# Altium footprint library PA-03225-V0.4-4.PcbLib: 16 footprints
Each footprint in its own frame and in the unit in brackets; x right, y up, seen from the top. Pads: shape width x height; smd on the part's side, far side on the other; paste and mask are expansions set on the pad; w line width, h text height; cw(c..) or ccw(c..) is an arc to the next point about the centre after c.
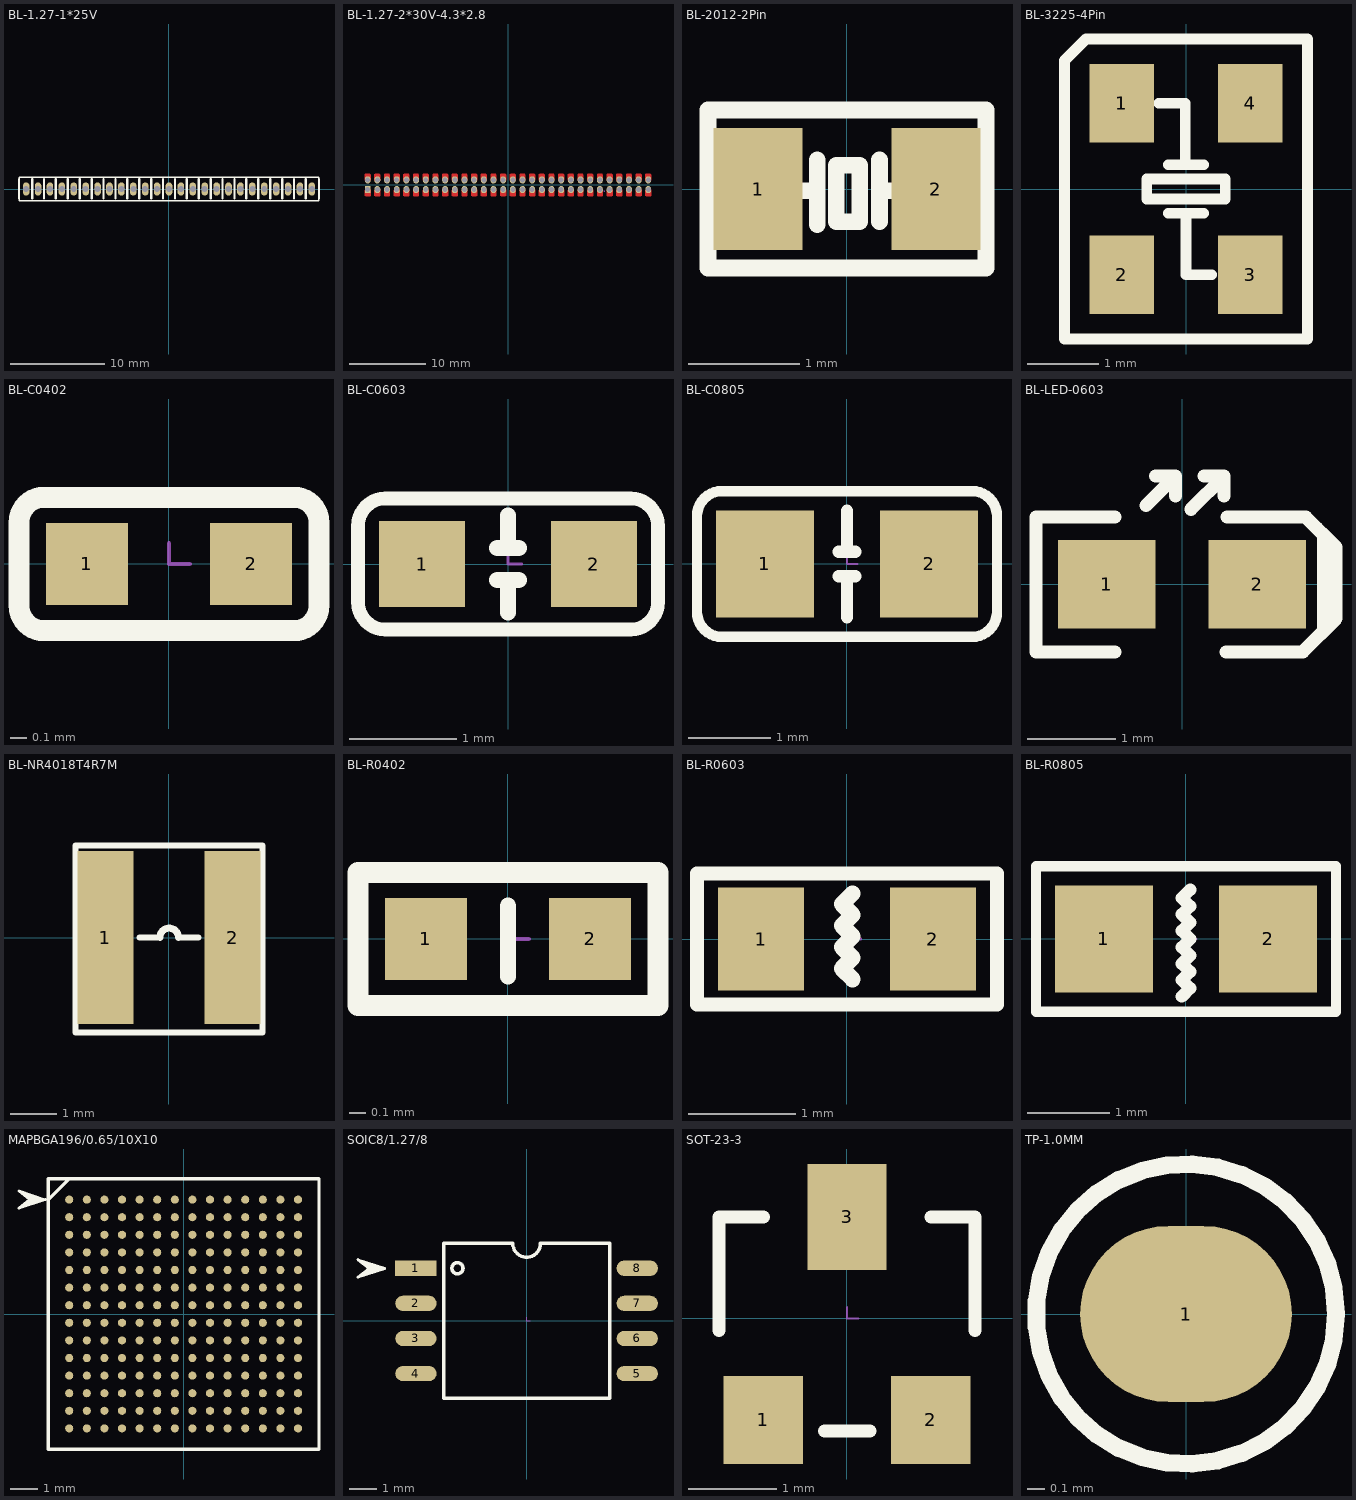
[diagram p0: the footprints below, top view; thin cyan lines are the x and y axes]

## BL-1.27-1*25V [mm] "针?"
height 12
pads (25):
  oval 0.7x1.4 / inner oval 0.7x1.4 / far side oval 0.82x1.4 hole 0.635: 1(-15.24,0) 2(-13.97,0) 3(-12.7,0) 4(-11.43,0) 5(-10.16,0) 6(-8.89,0) 7(-7.62,0) 8(-6.35,0) 9(-5.08,0) 10(-3.81,0) 11(-2.54,0) 12(-1.27,0) 13(0,0) 14(1.27,0) 15(2.54,0) 16(3.81,0) 17(5.08,0) 18(6.35,0) 19(7.62,0) 20(8.89,0) 21(10.16,0) 22(11.43,0) 23(12.7,0) 24(13.97,0) 25(15.24,0)
Top Overlay:
  lines w0.15: -16.002,-1.27 -16.002,1.27 16.002,1.27 16.002,-1.27 -16.002,-1.27
  lines w0.25: -16.002,-1.015 -16.002,1.035 ; -14.605,-1.015 -14.605,1.035 ; -13.335,-1.015 -13.335,1.035 ; -12.065,-1.015 -12.065,1.035 ; -10.795,-1.015 -10.795,1.035 ; -9.525,-1.015 -9.525,1.035 ; -8.255,-1.015 -8.255,1.035 ; -6.985,-1.015 -6.985,1.035 ; -5.715,-1.015 -5.715,1.035 ; -4.445,-1.015 -4.445,1.035 ; -3.175,-1.015 -3.175,1.035 ; -1.905,-1.015 -1.905,1.035 ; -0.635,-1.015 -0.635,1.035 ; 0.635,-1.015 0.635,1.035 ; 1.905,-1.015 1.905,1.035 ; 3.175,-1.015 3.175,1.035 ; 4.445,-1.015 4.445,1.035 ; 5.715,-1.015 5.715,1.035 ; 6.985,-1.015 6.985,1.035 ; 8.255,-1.015 8.255,1.035 ; 9.525,-1.015 9.525,1.035 ; 10.795,-1.015 10.795,1.035 ; 12.065,-1.015 12.065,1.035 ; 13.335,-1.015 13.335,1.035 ; 14.605,-1.015 14.605,1.035 ; 16.002,-1.015 16.002,1.035

## BL-1.27-2*30V-4.3*2.8 [mil]
pads (60):
  rect 30x37 hole 25.59: 1(-725,-25)
  oval 30x37 hole 25.59: 2(-725,25) 3(-675,-25) 4(-675,25) 5(-625,-25) 6(-625,25) 7(-575,-25) 8(-575,25) 9(-525,-25) 10(-525,25) 11(-475,-25) 12(-475,25) 13(-425,-25) 14(-425,25) 15(-375,-25) 16(-375,25) 17(-325,-25) 18(-325,25) 19(-275,-25) 20(-275,25) 21(-225,-25) 22(-225,25) 23(-175,-25) 24(-175,25) 25(-125,-25) 26(-125,25) 27(-75,-25) 28(-75,25) 29(-25,-25) 30(-25,25) 31(25,-25) 32(25,25) 33(75,-25) 34(75,25) 35(125,-25) 36(125,25) 37(175,-25) 38(175,25) 39(225,-25) 40(225,25) 41(275,-25) 42(275,25) 43(325,-25) 44(325,25) 45(375,-25) 46(375,25) 47(425,-25) 48(425,25) 49(475,-25) 50(475,25) 51(525,-25) 52(525,25) 53(575,-25) 54(575,25) 55(625,-25) 56(625,25) 57(675,-25) 58(675,25) 59(725,-25) 60(725,25)
Top Layer:
  region: -710,-57.13 -713,-60.13 -736,-60.13 -740,-56.13 -740,-27.87 -734.27,-22.13 -714.5,-22.13 -710,-26.63
  region: -740,53 -737,56 -714,56 -710,52 -710,23.73 -715.73,18 -735.5,18 -740,22.5
  region: -690,53 -687,56 -664,56 -660,52 -660,23.73 -665.73,18 -685.5,18 -690,22.5
  region: -660,-57.13 -663,-60.13 -686,-60.13 -690,-56.13 -690,-27.87 -684.27,-22.13 -664.5,-22.13 -660,-26.63
  region: -640,53 -637,56 -614,56 -610,52 -610,23.73 -615.73,18 -635.5,18 -640,22.5
  region: -610,-57.13 -613,-60.13 -636,-60.13 -640,-56.13 -640,-27.87 -634.27,-22.13 -614.5,-22.13 -610,-26.63
  region: -590,53 -587,56 -564,56 -560,52 -560,23.73 -565.73,18 -585.5,18 -590,22.5
  region: -560,-57.13 -563,-60.13 -586,-60.13 -590,-56.13 -590,-27.87 -584.27,-22.13 -564.5,-22.13 -560,-26.63
  region: -540,53 -537,56 -514,56 -510,52 -510,23.73 -515.73,18 -535.5,18 -540,22.5
  region: -510,-57.13 -513,-60.13 -536,-60.13 -540,-56.13 -540,-27.87 -534.27,-22.13 -514.5,-22.13 -510,-26.63
  region: -490,53 -487,56 -464,56 -460,52 -460,23.73 -465.73,18 -485.5,18 -490,22.5
  region: -460,-57.13 -463,-60.13 -486,-60.13 -490,-56.13 -490,-27.87 -484.27,-22.13 -464.5,-22.13 -460,-26.63
  region: -440,53 -437,56 -414,56 -410,52 -410,23.73 -415.73,18 -435.5,18 -440,22.5
  region: -410,-57.13 -413,-60.13 -436,-60.13 -440,-56.13 -440,-27.87 -434.27,-22.13 -414.5,-22.13 -410,-26.63
  region: -390,53 -387,56 -364,56 -360,52 -360,23.73 -365.73,18 -385.5,18 -390,22.5
  region: -360,-57.13 -363,-60.13 -386,-60.13 -390,-56.13 -390,-27.87 -384.27,-22.13 -364.5,-22.13 -360,-26.63
  region: -340,53 -337,56 -314,56 -310,52 -310,23.73 -315.73,18 -335.5,18 -340,22.5
  region: -310,-57.13 -313,-60.13 -336,-60.13 -340,-56.13 -340,-27.87 -334.27,-22.13 -314.5,-22.13 -310,-26.63
  region: -290,53 -287,56 -264,56 -260,52 -260,23.73 -265.73,18 -285.5,18 -290,22.5
  region: -260,-57.13 -263,-60.13 -286,-60.13 -290,-56.13 -290,-27.87 -284.27,-22.13 -264.5,-22.13 -260,-26.63
  region: -240,53 -237,56 -214,56 -210,52 -210,23.73 -215.73,18 -235.5,18 -240,22.5
  region: -210,-57.13 -213,-60.13 -236,-60.13 -240,-56.13 -240,-27.87 -234.27,-22.13 -214.5,-22.13 -210,-26.63
  region: -190,53 -187,56 -164,56 -160,52 -160,23.73 -165.73,18 -185.5,18 -190,22.5
  region: -160,-57.13 -163,-60.13 -186,-60.13 -190,-56.13 -190,-27.87 -184.27,-22.13 -164.5,-22.13 -160,-26.63
  region: -140,53 -137,56 -114,56 -110,52 -110,23.73 -115.73,18 -135.5,18 -140,22.5
  region: -110,-57.13 -113,-60.13 -136,-60.13 -140,-56.13 -140,-27.87 -134.27,-22.13 -114.5,-22.13 -110,-26.63
  region: -90,53 -87,56 -64,56 -60,52 -60,23.73 -65.73,18 -85.5,18 -90,22.5
  region: -60,-57.13 -63,-60.13 -86,-60.13 -90,-56.13 -90,-27.87 -84.27,-22.13 -64.5,-22.13 -60,-26.63
  region: -40,53 -37,56 -14,56 -10,52 -10,23.73 -15.73,18 -35.5,18 -40,22.5
  region: -10,-57.13 -13,-60.13 -36,-60.13 -40,-56.13 -40,-27.87 -34.27,-22.13 -14.5,-22.13 -10,-26.63
  region: 10,53 13,56 36,56 40,52 40,23.73 34.27,18 14.5,18 10,22.5
  region: 40,-57.13 37,-60.13 14,-60.13 10,-56.13 10,-27.87 15.73,-22.13 35.5,-22.13 40,-26.63
  region: 60,53 63,56 86,56 90,52 90,23.73 84.27,18 64.5,18 60,22.5
  region: 90,-57.13 87,-60.13 64,-60.13 60,-56.13 60,-27.87 65.73,-22.13 85.5,-22.13 90,-26.63
  region: 110,53 113,56 136,56 140,52 140,23.73 134.27,18 114.5,18 110,22.5
  region: 140,-57.13 137,-60.13 114,-60.13 110,-56.13 110,-27.87 115.73,-22.13 135.5,-22.13 140,-26.63
  region: 160,53 163,56 186,56 190,52 190,23.73 184.27,18 164.5,18 160,22.5
  region: 190,-57.13 187,-60.13 164,-60.13 160,-56.13 160,-27.87 165.73,-22.13 185.5,-22.13 190,-26.63
  region: 210,53 213,56 236,56 240,52 240,23.73 234.27,18 214.5,18 210,22.5
  region: 240,-57.13 237,-60.13 214,-60.13 210,-56.13 210,-27.87 215.73,-22.13 235.5,-22.13 240,-26.63
  region: 260,53 263,56 286,56 290,52 290,23.73 284.27,18 264.5,18 260,22.5
  region: 290,-57.13 287,-60.13 264,-60.13 260,-56.13 260,-27.87 265.73,-22.13 285.5,-22.13 290,-26.63
  region: 310,53 313,56 336,56 340,52 340,23.73 334.27,18 314.5,18 310,22.5
  region: 340,-57.13 337,-60.13 314,-60.13 310,-56.13 310,-27.87 315.73,-22.13 335.5,-22.13 340,-26.63
  region: 360,53 363,56 386,56 390,52 390,23.73 384.27,18 364.5,18 360,22.5
  region: 390,-57.13 387,-60.13 364,-60.13 360,-56.13 360,-27.87 365.73,-22.13 385.5,-22.13 390,-26.63
  region: 410,53 413,56 436,56 440,52 440,23.73 434.27,18 414.5,18 410,22.5
  region: 440,-57.13 437,-60.13 414,-60.13 410,-56.13 410,-27.87 415.73,-22.13 435.5,-22.13 440,-26.63
  region: 460,53 463,56 486,56 490,52 490,23.73 484.27,18 464.5,18 460,22.5
  region: 490,-57.13 487,-60.13 464,-60.13 460,-56.13 460,-27.87 465.73,-22.13 485.5,-22.13 490,-26.63
  region: 510,53 513,56 536,56 540,52 540,23.73 534.27,18 514.5,18 510,22.5
  region: 540,-57.13 537,-60.13 514,-60.13 510,-56.13 510,-27.87 515.73,-22.13 535.5,-22.13 540,-26.63
  region: 560,53 563,56 586,56 590,52 590,23.73 584.27,18 564.5,18 560,22.5
  region: 590,-57.13 587,-60.13 564,-60.13 560,-56.13 560,-27.87 565.73,-22.13 585.5,-22.13 590,-26.63
  region: 610,53 613,56 636,56 640,52 640,23.73 634.27,18 614.5,18 610,22.5
  region: 640,-57.13 637,-60.13 614,-60.13 610,-56.13 610,-27.87 615.73,-22.13 635.5,-22.13 640,-26.63
  region: 660,53 663,56 686,56 690,52 690,23.73 684.27,18 664.5,18 660,22.5
  region: 690,-57.13 687,-60.13 664,-60.13 660,-56.13 660,-27.87 665.73,-22.13 685.5,-22.13 690,-26.63
  region: 710,53 713,56 736,56 740,52 740,23.73 734.27,18 714.5,18 710,22.5
  region: 740,-57.13 737,-60.13 714,-60.13 710,-56.13 710,-27.87 715.73,-22.13 735.5,-22.13 740,-26.63
Bottom Overlay:
  lines w4: -731.73,-109.13 -723.73,-93.13 -719.73,-109.13 ; -715.73,-111.13 -725.73,-89.13 -733.73,-111.13 -725.18,-81.13 ; -725.18,-81.13 -712.63,-119.13 -725.18,-103.64 -737.73,-119.13 -725.18,-81.13
  lines w5: -775,0 -700,0 -700,-75 ; -775,-75 775,-75 775,75 -775,75 -775,-75
  lines w7.87: -723.73,-103.13 -723.73,-93.13
  text "1" at -765,-40 h30
  text "2" at -765,15 h30
Top Solder:
  drawing of 60 lines, arcs and shapes, not listed
Mechanical 2:
  lines w1: 494.45,-31.5 499.45,-31.5 499.45,-36.5
  text "80" at -456.26,-82.68 h8
  text "79" at -456.26,31.5 h8
  text "1" at 1479.45,38.5 h8
  text "2" at 1479.45,-81.5 h8

## BL-2012-2Pin [mm]
height 12
pads (2):
  rect 0.8x1.1 smd paste+0 mask+0.051: 1(-0.8,0) 2(0.8,0)
Top Overlay:
  lines w0.15: -0.47,-0.016 -0.282,-0.016 ; -0.267,-0.321 -0.267,0.264 ; 0.292,-0.295 0.292,0.264 ; 0.343,-0.016 0.495,-0.016 ; -0.095,-0.295 -0.095,0.213 0.114,0.213 0.114,-0.295 -0.095,-0.295
  lines w0.152: -1.25,-0.711 -1.25,0.711 1.25,0.711 1.25,-0.711 -1.25,-0.711

## BL-3225-4Pin [mm]
height 12
pads (4):
  rect 0.9x1.1 smd: 1(-0.9,1.2) 2(-0.9,-1.2) 3(0.9,-1.2) 4(0.9,1.2)
Top Overlay:
  lines w0.15: -0.38,1.2 -0.01,1.2 -0.01,0.4 ; -0.25,-0.34 0,-0.34 ; -0.25,0.34 0.25,0.34 ; 0.25,-0.34 0,-0.34 ; 0.36,-1.2 0,-1.2 0,-0.34 ; -1.7,-2.1 -1.7,1.8 -1.4,2.1 1.7,2.1 1.7,-2.1 -1.7,-2.1 ; -0.55,-0.14 -0.55,0.14 0.55,0.14 0.55,-0.14 -0.55,-0.14

## BL-C0402 [mm]
height 12
pads (2):
  rect 0.5x0.5 smd: 1(-0.5,0) 2(0.5,0)
Top Overlay:
  lines w0.127: -0.914,-0.254 ccw(c-0.762,-0.254) -0.762,-0.406 0.762,-0.406 ccw(c0.762,-0.254) 0.914,-0.254 0.914,0.254 ccw(c0.762,0.254) 0.762,0.406 -0.762,0.406 ccw(c-0.762,0.254) -0.914,0.254 -0.914,-0.254
Mechanical 2:
  lines w0.025: 0,0.127 0,0 0.127,0

## BL-C0603 [mm]
pads (2):
  rect 0.8x0.8 smd: 1(-0.8,0) 2(0.8,0)
Top Overlay:
  lines w0.127: -1.397,-0.356 ccw(c-1.143,-0.356) -1.143,-0.61 1.143,-0.61 ccw(c1.143,-0.356) 1.397,-0.356 1.397,0.356 ccw(c1.143,0.356) 1.143,0.61 -1.143,0.61 ccw(c-1.143,0.356) -1.397,0.356 -1.397,-0.356
  lines w0.15: -0.1,-0.15 0.1,-0.15 ; -0.1,0.15 0.1,0.15 ; 0,-0.45 0,-0.15 ; 0,0.15 0,0.45
Mechanical 2:
  lines w0.025: 0,0.127 0,0 0.127,0

## BL-C0805 [mm]
height 12
pads (2):
  rect 1.2x1.3 smd: 1(-1,0) 2(1,0)
Top Overlay:
  lines w0.127: -1.829,-0.584 ccw(c-1.524,-0.584) -1.524,-0.889 1.524,-0.889 ccw(c1.524,-0.584) 1.829,-0.584 1.829,0.584 ccw(c1.524,0.584) 1.524,0.889 -1.524,0.889 ccw(c-1.524,0.584) -1.829,0.584 -1.829,-0.584
  lines w0.15: -0.1,-0.15 0.1,-0.15 ; -0.1,0.15 0.1,0.15 ; 0,-0.65 0,-0.15 ; 0,0.15 0,0.65
Mechanical 2:
  lines w0.025: 0,0.127 0,0 0.127,0

## BL-LED-0603 [mm]
height 12
pads (2):
  rect 1.1x1 smd: 1(-0.85,0) 2(0.85,0)
Top Overlay:
  lines w0.15: -0.76,-0.762 -1.651,-0.762 -1.651,0.762 -0.76,0.762 ; -0.409,0.892 -0.075,1.225 ; -0.3,1.225 -0.075,1.225 ; -0.075,1 -0.075,1.225 ; 0.1,0.85 0.475,1.225 ; 0.25,1.225 0.475,1.225 ; 0.475,1 0.475,1.225 ; 0.5,-0.762 1.363,-0.762 1.74,-0.385 1.74,0.422 1.4,0.762 ; 0.51,0.762 1.4,0.762 ; 1.525,0.637 1.4,0.762 ; 1.675,-0.45 1.6,-0.525 1.6,0.562 1.675,0.487

## BL-NR4018T4R7M [mm]
height 12
pads (2):
  rect 1.2x3.7 smd: 1(-1.365,0) 2(1.365,0)
Top Overlay:
  lines w0.127: -0.635,0 -0.197,0 ; 0.203,0 0.635,0 ; -2,-2.032 2,-2.032 2,1.968 -2,1.968 -2,-2.032
  lines w0.15: -0.197,0 cw(c0.003,0) 0.203,0

## BL-R0402 [mm]
height 40
pads (2):
  rect 0.5x0.5 smd: 1(-0.5,0) 2(0.5,0)
Top Overlay:
  lines w0.1: 0,-0.229 0,0.203
  lines w0.127: -0.914,-0.406 -0.914,0.406 0.914,0.406 0.914,-0.406 -0.914,-0.406
Mechanical 2:
  lines w0.025: 0,0.127 0,0 0.127,0

## BL-R0603 [mm]
height 12
pads (2):
  rect 0.8x0.96 smd: 1(-0.8,0) 2(0.8,0)
Top Overlay:
  lines w0.127: -1.397,-0.61 -1.397,0.61 1.397,0.61 1.397,-0.61 -1.397,-0.61
  lines w0.15: 0.052,-0.375 -0.048,-0.275 0.052,-0.175 -0.048,-0.075 0.052,0.025 -0.048,0.125 0.052,0.225 -0.048,0.325 0.052,0.425
Mechanical 2:
  lines w0.025: 0,0.127 0,0 0.127,0

## BL-R0805 [mm]
height 12
pads (2):
  rect 1.2x1.3 smd: 1(-1,0) 2(1,0)
Top Overlay:
  lines w0.127: -1.829,-0.889 1.829,-0.889 1.829,0.889 -1.829,0.889 -1.829,-0.889
  lines w0.15: -0.05,-0.7 0.05,-0.6 ; 0.05,0.6 -0.05,0.5 0.05,0.4 -0.05,0.3 0.05,0.2 -0.05,0.1 0.05,0 -0.05,-0.1 0.05,-0.2 -0.05,-0.3 0.05,-0.4 -0.05,-0.5 0.05,-0.6 ; 0.05,-0.6 0.05,-0.6
Mechanical 2:
  lines w0.025: 0,0.127 0,0 0.127,0

## MAPBGA196/0.65/10X10 [mm]
height 12
pads (196):
  round 0.3 smd: A1(-4.225,4.225) A2(-3.575,4.225) A3(-2.925,4.225) A4(-2.275,4.225) A5(-1.625,4.225) A6(-0.975,4.225) A7(-0.325,4.225) A8(0.325,4.225) A9(0.975,4.225) A10(1.625,4.225) A11(2.275,4.225) A12(2.925,4.225) A13(3.575,4.225) A14(4.225,4.225) B1(-4.225,3.575) B2(-3.575,3.575) B3(-2.925,3.575) B4(-2.275,3.575) B5(-1.625,3.575) B6(-0.975,3.575) B7(-0.325,3.575) B8(0.325,3.575) B9(0.975,3.575) B10(1.625,3.575) B11(2.275,3.575) B12(2.925,3.575) B13(3.575,3.575) B14(4.225,3.575) C1(-4.225,2.925) C2(-3.575,2.925) C3(-2.925,2.925) C4(-2.275,2.925) C5(-1.625,2.925) C6(-0.975,2.925) C7(-0.325,2.925) C8(0.325,2.925) C9(0.975,2.925) C10(1.625,2.925) C11(2.275,2.925) C12(2.925,2.925) C13(3.575,2.925) C14(4.225,2.925) D1(-4.225,2.275) D2(-3.575,2.275) D3(-2.925,2.275) D4(-2.275,2.275) D5(-1.625,2.275) D6(-0.975,2.275) D7(-0.325,2.275) D8(0.325,2.275) D9(0.975,2.275) D10(1.625,2.275) D11(2.275,2.275) D12(2.925,2.275) D13(3.575,2.275) D14(4.225,2.275) E1(-4.225,1.625) E2(-3.575,1.625) E3(-2.925,1.625) E4(-2.275,1.625) E5(-1.625,1.625) E6(-0.975,1.625) E7(-0.325,1.625) E8(0.325,1.625) E9(0.975,1.625) E10(1.625,1.625) E11(2.275,1.625) E12(2.925,1.625) E13(3.575,1.625) E14(4.225,1.625) F1(-4.225,0.975) F2(-3.575,0.975) F3(-2.925,0.975) F4(-2.275,0.975) F5(-1.625,0.975) F6(-0.975,0.975) F7(-0.325,0.975) F8(0.325,0.975) F9(0.975,0.975) F10(1.625,0.975) F11(2.275,0.975) F12(2.925,0.975) F13(3.575,0.975) F14(4.225,0.975) G1(-4.225,0.325) G2(-3.575,0.325) G3(-2.925,0.325) G4(-2.275,0.325) G5(-1.625,0.325) G6(-0.975,0.325) G7(-0.325,0.325) G8(0.325,0.325) G9(0.975,0.325) G10(1.625,0.325) G11(2.275,0.325) G12(2.925,0.325) G13(3.575,0.325) G14(4.225,0.325) H1(-4.225,-0.325) H2(-3.575,-0.325) H3(-2.925,-0.325) H4(-2.275,-0.325) H5(-1.625,-0.325) H6(-0.975,-0.325) H7(-0.325,-0.325) H8(0.325,-0.325) H9(0.975,-0.325) H10(1.625,-0.325) H11(2.275,-0.325) H12(2.925,-0.325) H13(3.575,-0.325) H14(4.225,-0.325) J1(-4.225,-0.975) J2(-3.575,-0.975) J3(-2.925,-0.975) J4(-2.275,-0.975) J5(-1.625,-0.975) J6(-0.975,-0.975) J7(-0.325,-0.975) J8(0.325,-0.975) J9(0.975,-0.975) J10(1.625,-0.975) J11(2.275,-0.975) J12(2.925,-0.975) J13(3.575,-0.975) J14(4.225,-0.975) K1(-4.225,-1.625) K2(-3.575,-1.625) K3(-2.925,-1.625) K4(-2.275,-1.625) K5(-1.625,-1.625) K6(-0.975,-1.625) K7(-0.325,-1.625) K8(0.325,-1.625) K9(0.975,-1.625) K10(1.625,-1.625) K11(2.275,-1.625) K12(2.925,-1.625) K13(3.575,-1.625) K14(4.225,-1.625) L1(-4.225,-2.275) L2(-3.575,-2.275) L3(-2.925,-2.275) L4(-2.275,-2.275) L5(-1.625,-2.275) L6(-0.975,-2.275) L7(-0.325,-2.275) L8(0.325,-2.275) L9(0.975,-2.275) L10(1.625,-2.275) L11(2.275,-2.275) L12(2.925,-2.275) L13(3.575,-2.275) L14(4.225,-2.275) M1(-4.225,-2.925) M2(-3.575,-2.925) M3(-2.925,-2.925) M4(-2.275,-2.925) M5(-1.625,-2.925) M6(-0.975,-2.925) M7(-0.325,-2.925) M8(0.325,-2.925) M9(0.975,-2.925) M10(1.625,-2.925) M11(2.275,-2.925) M12(2.925,-2.925) M13(3.575,-2.925) M14(4.225,-2.925) N1(-4.225,-3.575) N2(-3.575,-3.575) N3(-2.925,-3.575) N4(-2.275,-3.575) N5(-1.625,-3.575) N6(-0.975,-3.575) N7(-0.325,-3.575) N8(0.325,-3.575) N9(0.975,-3.575) N10(1.625,-3.575) N11(2.275,-3.575) N12(2.925,-3.575) N13(3.575,-3.575) N14(4.225,-3.575) P1(-4.225,-4.225) P2(-3.575,-4.225) P3(-2.925,-4.225) P4(-2.275,-4.225) P5(-1.625,-4.225) P6(-0.975,-4.225) P7(-0.325,-4.225) P8(0.325,-4.225) P9(0.975,-4.225) P10(1.625,-4.225) P11(2.275,-4.225) P12(2.925,-4.225) P13(3.575,-4.225) P14(4.225,-4.225)
Top Overlay:
  lines w0.102: -5.876,3.985 -5.317,4.239 -5.876,4.442 -5.114,4.225 ; -5.825,4.087 -5.419,4.188 -5.825,4.391 ; -5.114,4.225 -6.079,4.544 -5.686,4.225 -6.079,3.906 -5.114,4.225
  lines w0.127: -4.987,4.239 -4.226,5 -4.225,5 ; -5,-5 5,-5 5,5 -5,5 -5,-5
  lines w0.15: -5.673,4.188 -5.419,4.188

## SOIC8/1.27/8 [mm]
height 12
pads (8):
  rect 1.5x0.55 smd: 1(-4,1.905)
  oval 1.5x0.55 smd: 2(-4,0.635) 3(-4,-0.635) 4(-4,-1.905) 5(4,-1.905) 6(4,-0.635) 7(4,0.635) 8(4,1.905)
Top Overlay:
  circle w0.127: c-2.5,1.905 r0.2
  lines w0.102: -5.893,1.656 -5.334,1.91 -5.893,2.114 -5.131,1.896 ; -5.842,1.758 -5.436,1.86 -5.842,2.063 ; -5.131,1.896 -6.096,2.215 -5.702,1.896 -6.096,1.578 -5.131,1.896
  lines w0.127: -3,-2.8 -3,2.8 -0.5,2.8 ccw(c0,2.8) 0.5,2.8 3,2.8 3,-2.8 -3,-2.8
  lines w0.2: -5.69,1.86 -5.436,1.86
Mechanical 2:
  lines w0.025: 0,0.127 0,0 0.127,0

## SOT-23-3 [mm]
height 12
pads (3):
  rect 0.9x1 smd: 1(-0.95,-1.15) 2(0.95,-1.15)
  rect 0.9x1.2 smd: 3(0,1.15)
Top Overlay:
  lines w0.15: -1.45,-0.134 -1.45,1.15 -0.95,1.15 ; -0.251,-1.277 0.257,-1.277 ; 0.955,1.15 1.45,1.15 1.45,-0.134
Mechanical 2:
  lines w0.025: 0,0.127 0,0 0.127,0

## TP-1.0MM [mm]
height 12
pads (1):
  oval 1.2x1 smd: 1(0,0)
Top Overlay:
  circle w0.1: c0,0 r0.85